# Altium schematic symbol library Fuse.SchLib: 2 symbols
Pins are listed as number, name and electrical type; pins without a type are passive.

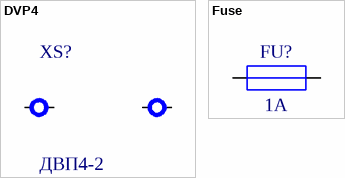
[diagram p0: symbols DVP4 to Fuse]

## DVP4
designator XS?, comment ДВП4-2
Держатель вставки плавкой; Marking: "10A"; ValueSch: ДВП4-2
pins: 1, 2, 3, 4

## Fuse
designator FU?, comment 1A
Fuse; ValueSch: 1A
pins: 1, 2